# EAGLE library part 2.54_14P_STACKABLE_HDR (library P1AM-PROTO)
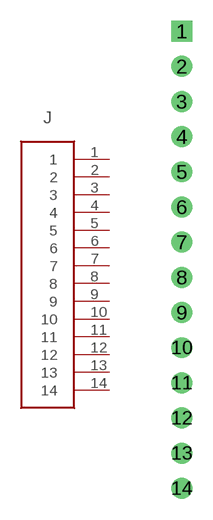
[diagram p1: symbol with the pads of 2.54_14P_STACKABLE_HDR; footprint 2.54_14P_STACKABLE_HDR]

Designator prefix J

## 2.54_14P_STACKABLE_HDR  [2.54_14P_STACKABLE_HDR]
1  1
2  2
3  3
4  4
5  5
6  6
7  7
8  8
9  9
10  10
11  11
12  12
13  13
14  14

## Footprint 2.54_14P_STACKABLE_HDR (pad centres in mm)
drill 1 square: 1 0,0
drill 1: 2 0,-2.54; 3 0,-5.08; 4 0,-7.62; 5 0,-10.16; 6 0,-12.7; 7 0,-15.24; 8 0,-17.78; 9 0,-20.32; 10 0,-22.86; 11 0,-25.4; 12 0,-27.94; 13 0,-30.48; 14 0,-33.02